# Altium schematic symbol library AD8132.SchLib: 1 symbol
Pins are listed as number, name and electrical type; pins without a type are passive.

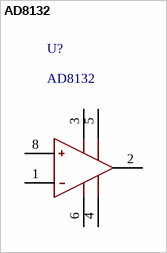
[diagram p0: symbol AD8132]

## AD8132
designator U?
Low Cost, High Speed  Differential Amplifier
footprint ADI-R-8_L (SOIC, 8-Leads, Body 4.9x3.9mm, Pitch 1.27mm, IPC High Density)
footprint ADI-R-8_N (SOIC, 8-Leads, Body 4.9x3.9mm, Pitch 1.27mm, IPC Medium Density)
footprint ADI-R-8_M (SOIC, 8-Leads, Body 4.9x3.9mm, Pitch 1.27mm, IPC Low Density)
pins: 1 in- "Termal Pad", 2 Vocm "Termal Pad", 3 V+ "Termal Pad", 4 OUT+ "Termal Pad", 5 OUT- "Termal Pad", 6 V- "Termal Pad", 8 in+ "Termal Pad"